# Altium footprint library DIODES SOT-523.PCBLIB: 1 footprints
Each footprint in its own frame and in the unit in brackets; x right, y up, seen from the top. Pads: shape width x height; smd on the part's side, far side on the other; paste and mask are expansions set on the pad; w line width, h text height; cw(c..) or ccw(c..) is an arc to the next point about the centre after c.
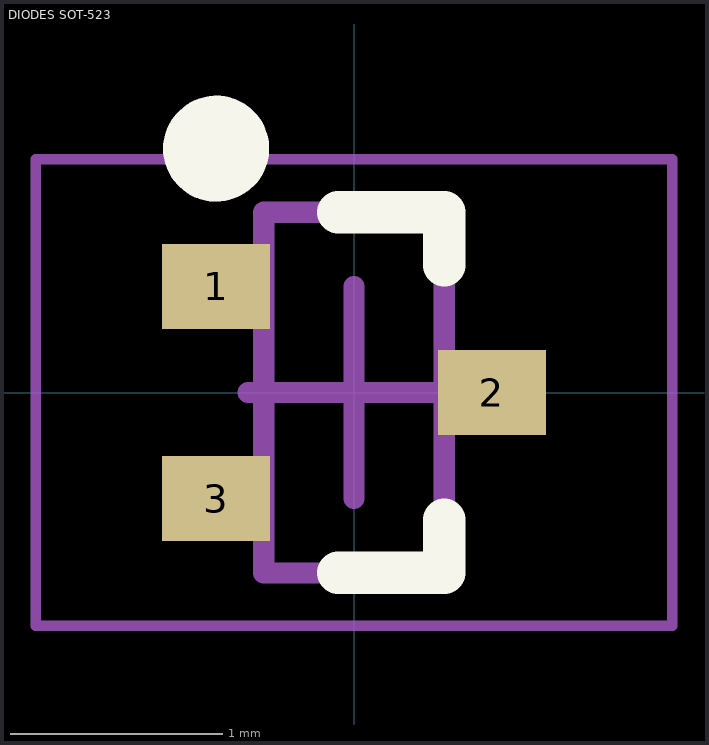
[diagram p0: the footprint, top view; thin cyan lines are the x and y axes]

## DIODES SOT-523 [mm] "SOT523, 3-Leads, Body 0.8x1.60mm, Pitch 0.50mm, IPC Medium Density"
height 0.8
pads (3):
  rect 0.51x0.4 smd: 1(-0.65,0.5) 2(0.65,0) 3(-0.65,-0.5)
Top Overlay:
  circle w0.25: c-0.65,1.15 r0.125
  lines w0.2: -0.075,-0.85 0.425,-0.85 0.425,-0.6 ; -0.075,0.85 0.425,0.85 0.425,0.6
Mechanical 13:
  lines w0.1: -0.425,-0.85 -0.425,0.85 0.425,0.85 0.425,-0.85 -0.425,-0.85
Mechanical 15:
  lines w0.05: -1.5,-1.1 -1.5,1.1 1.5,1.1 1.5,-1.1 -1.5,-1.1
  lines w0.1: -0.5,0 0.5,0 ; 0,-0.5 0,0.5
3D body "sot-523.STEP": height 0.82, standoff 0, extent -0.808,-0.8 0.809,0.8